# Altium footprint library FullyDigital.PcbLib: 50 footprints (part 3 of 4)
Each footprint in its own frame and in the unit in brackets; x right, y up, seen from the top. Pads: shape width x height; smd on the part's side, far side on the other; paste and mask are expansions set on the pad; w line width, h text height; cw(c..) or ccw(c..) is an arc to the next point about the centre after c.
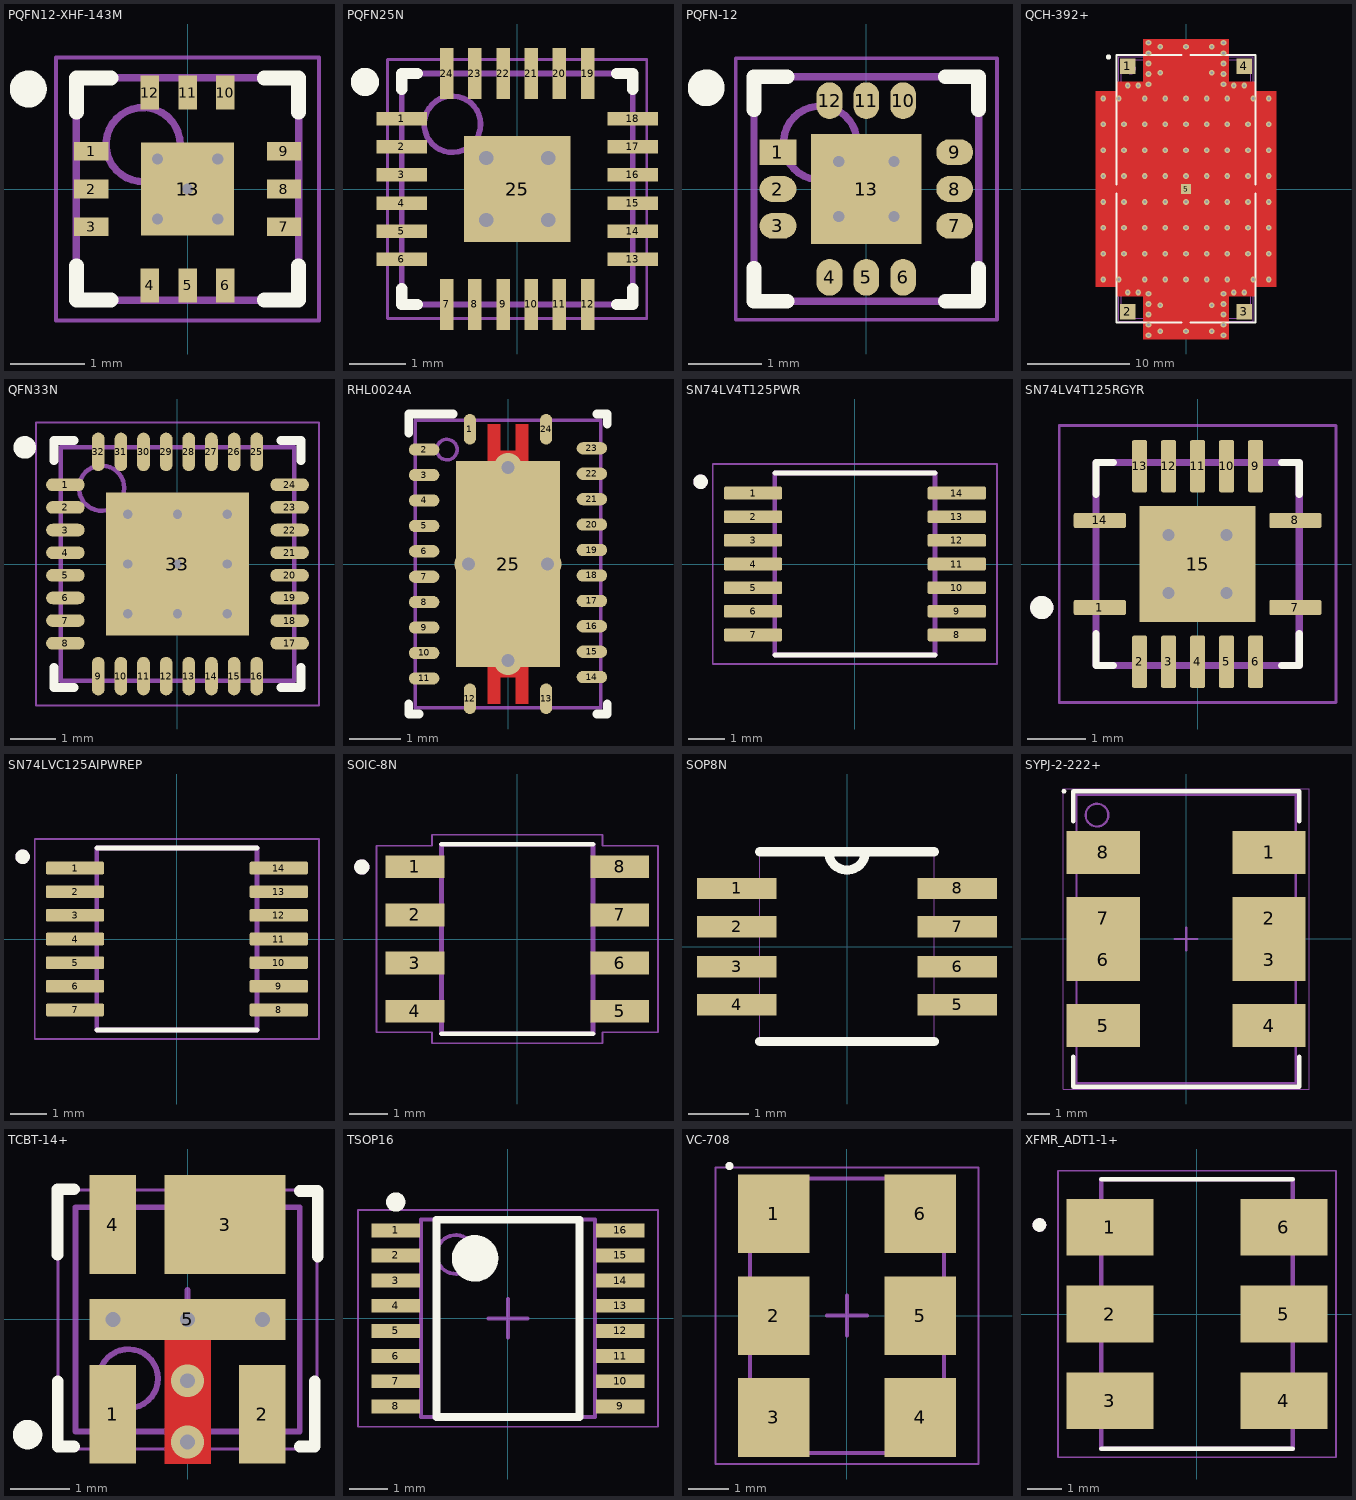
[diagram p2: the footprints below, top view; thin cyan lines are the x and y axes]

## PQFN12-XHF-143M [mm] "PQFN, 12-Leads, Body 3.00x3.00mm, Pitch 0.51mm, Thermal Pad 1.25x1.25mm, IPC Medium Density"
height 0.89
pads (13):
  rect 0.46x0.25 smd mask+0.051: 1(-1.3,0.51) 2(-1.3,0) 3(-1.3,-0.51) 7(1.3,-0.51) 8(1.3,0) 9(1.3,0.51)
  rect 0.25x0.46 smd mask+0.051: 4(-0.51,-1.3) 5(0,-1.3) 6(0.51,-1.3) 10(0.51,1.3) 11(0,1.3) 12(-0.51,1.3)
  rect 1.25x1.25 smd mask+0.051: 13(0,0)
via 0.406,-0.406 diameter 0.305 hole 0.152
via -0.406,0.406 diameter 0.305 hole 0.152
via -0.406,-0.406 diameter 0.305 hole 0.152
via 0.406,0.406 diameter 0.305 hole 0.152
via 0,0 diameter 0.305 hole 0.152
Top Overlay:
  circle w0.25: c-2.15,1.35 r0.125
  lines w0.2: -1.5,-1.035 -1.5,-1.5 -1.035,-1.5 ; -1.5,1.035 -1.5,1.5 -1.035,1.5 ; 1.035,-1.5 1.5,-1.5 1.5,-1.035 ; 1.035,1.5 1.5,1.5 1.5,1.035
Mechanical 13:
  circle w0.1: c-0.6,0.6 r0.5
  lines w0.1: -1.5,-1.5 1.5,-1.5 1.5,1.5 -1.5,1.5 -1.5,-1.5
Mechanical 15:
  lines w0.05: -1.775,-1.775 1.775,-1.775 1.775,1.775 -1.775,1.775 -1.775,-1.775
  lines w0.1: -0.5,0 0.5,0 ; 0,-0.5 0,0.5
3D body: height 0.89, standoff 0.2, extent -1.5,-1.5 1.5,1.5

## PQFN25N [mm] "PQFN, 24-Leads, Body 4.00x4.00mm, Pitch 0.50mm, Thermal Pad 1.89x1.89mm, IPC Medium Density"
height 0.8
pads (25):
  rect 0.9x0.24 smd mask+0.025: 1(-2.05,1.25) 2(-2.05,0.75) 3(-2.05,0.25) 4(-2.05,-0.25) 5(-2.05,-0.75) 6(-2.05,-1.25) 13(2.05,-1.25) 14(2.05,-0.75) 15(2.05,-0.25) 16(2.05,0.25) 17(2.05,0.75) 18(2.05,1.25)
  rect 0.24x0.9 smd mask+0.025: 7(-1.25,-2.05) 8(-0.75,-2.05) 9(-0.25,-2.05) 10(0.25,-2.05) 11(0.75,-2.05) 12(1.25,-2.05) 19(1.25,2.05) 20(0.75,2.05) 21(0.25,2.05) 22(-0.25,2.05) 23(-0.75,2.05) 24(-1.25,2.05)
  rect 1.89x1.89 smd mask+0.025: 25(0,0)
via -0.55,0.55 diameter 0.559 hole 0.254
via 0.55,0.55 diameter 0.559 hole 0.254
via -0.55,-0.55 diameter 0.559 hole 0.254
via 0.55,-0.55 diameter 0.559 hole 0.254
Top Overlay:
  circle w0.25: c-2.7,1.9 r0.125
  lines w0.2: -2.05,-1.77 -2.05,-2.05 -1.77,-2.05 ; -2.05,1.77 -2.05,2.05 -1.77,2.05 ; 1.77,-2.05 2.05,-2.05 2.05,-1.77 ; 1.77,2.05 2.05,2.05 2.05,1.77
Mechanical 13:
  circle w0.1: c-1.15,1.15 r0.5
  lines w0.1: -2.05,-2.05 -2.05,2.05 2.05,2.05 2.05,-2.05 -2.05,-2.05
Mechanical 15:
  lines w0.05: -2.3,-2.3 -2.3,2.3 2.3,2.3 2.3,-2.3 -2.3,-2.3
  lines w0.1: -0.5,0 0.5,0 ; 0,-0.5 0,0.5
3D body: height 0.8, standoff 0.05, extent -2.05,-2.05 2.05,2.05

## PQFN-12 [mm] "PQFN, 12-Leads, Body 2.90x2.90mm, Pitch 0.50mm, Thermal Pad 1.50x1.50mm, IPC Medium Density"
height 0.9
pads (13):
  rect 0.5x0.35 smd mask+0.025: 1(-1.2,0.5)
  oval 0.5x0.35 smd mask+0.025: 2(-1.2,0) 3(-1.2,-0.5) 7(1.2,-0.5) 8(1.2,0) 9(1.2,0.5)
  oval 0.35x0.5 smd mask+0.025: 4(-0.5,-1.2) 5(0,-1.2) 6(0.5,-1.2) 10(0.5,1.2) 11(0,1.2) 12(-0.5,1.2)
  rect 1.5x1.5 smd mask+0.025: 13(0,0)
via 0.375,-0.375 diameter 0.356 hole 0.152
via -0.375,-0.375 diameter 0.356 hole 0.152
via 0.375,0.375 diameter 0.356 hole 0.152
via -0.375,0.375 diameter 0.356 hole 0.152
Top Overlay:
  circle w0.25: c-2.175,1.375 r0.125
  lines w0.2: -1.525,-1.075 -1.525,-1.525 -1.075,-1.525 ; -1.525,1.075 -1.525,1.525 -1.075,1.525 ; 1.075,-1.525 1.525,-1.525 1.525,-1.075 ; 1.075,1.525 1.525,1.525 1.525,1.075
Mechanical 13:
  circle w0.1: c-0.625,0.625 r0.5
  lines w0.1: -1.525,-1.525 1.525,-1.525 1.525,1.525 -1.525,1.525 -1.525,-1.525
Mechanical 15:
  lines w0.05: -1.775,-1.775 1.775,-1.775 1.775,1.775 -1.775,1.775 -1.775,-1.775
  lines w0.1: -0.5,0 0.5,0 ; 0,-0.5 0,0.5
3D body "PQFN-12.step": height 0.9, standoff 0, extent -1.525,-1.525 1.525,1.525

## QCH-392+ [mm] "2 Way-90° Power Splitter"
height 0.9
pads (5):
  rect 1.52x1.52 smd mask+0.05: 1(-5.715,12.065) 2(-5.715,-12.065) 3(5.715,-12.065) 4(5.715,12.065)
  rect 1x1 smd: 5(0,0)
via -3.683,-13.335 diameter 0.559 hole 0.254
via -3.683,-12.319 diameter 0.559 hole 0.254
via -3.683,-11.303 diameter 0.559 hole 0.254
via -3.683,-10.287 diameter 0.559 hole 0.254
via 3.683,-13.335 diameter 0.559 hole 0.254
via 3.683,-12.319 diameter 0.559 hole 0.254
via 3.683,-11.303 diameter 0.559 hole 0.254
via 3.683,-10.287 diameter 0.559 hole 0.254
via -5.715,-10.16 diameter 0.559 hole 0.254
via -4.699,-10.16 diameter 0.559 hole 0.254
via 4.699,-10.16 diameter 0.559 hole 0.254
via 5.715,-10.16 diameter 0.559 hole 0.254
via -5.715,10.16 diameter 0.559 hole 0.254
via -4.699,10.16 diameter 0.559 hole 0.254
via 5.715,10.16 diameter 0.559 hole 0.254
via 4.699,10.16 diameter 0.559 hole 0.254
via -3.683,10.287 diameter 0.559 hole 0.254
via -3.683,11.303 diameter 0.559 hole 0.254
via -3.683,12.319 diameter 0.559 hole 0.254
via -3.683,13.335 diameter 0.559 hole 0.254
via 3.683,13.335 diameter 0.559 hole 0.254
via 3.683,12.319 diameter 0.559 hole 0.254
via 3.683,11.303 diameter 0.559 hole 0.254
via 3.683,10.287 diameter 0.559 hole 0.254
via 6.604,8.89 diameter 0.559 hole 0.254
via -2.54,-11.43 diameter 0.559 hole 0.254
via 2.54,-11.43 diameter 0.559 hole 0.254
via -2.54,11.43 diameter 0.559 hole 0.254
via 2.54,11.43 diameter 0.559 hole 0.254
via 6.604,-8.89 diameter 0.559 hole 0.254
via 4.064,-8.89 diameter 0.559 hole 0.254
via 2.032,-8.89 diameter 0.559 hole 0.254
via 0,-8.89 diameter 0.559 hole 0.254
via -2.032,-8.89 diameter 0.559 hole 0.254
via -6.604,-8.89 diameter 0.559 hole 0.254
via 6.096,-6.35 diameter 0.559 hole 0.254
via 4.064,-6.35 diameter 0.559 hole 0.254
via 2.032,-6.35 diameter 0.559 hole 0.254
via 0,-6.35 diameter 0.559 hole 0.254
via -2.032,-6.35 diameter 0.559 hole 0.254
via -6.096,-6.35 diameter 0.559 hole 0.254
via 6.096,-3.81 diameter 0.559 hole 0.254
via 4.064,-3.81 diameter 0.559 hole 0.254
via 2.032,-3.81 diameter 0.559 hole 0.254
via 0,-3.81 diameter 0.559 hole 0.254
via -2.032,-3.81 diameter 0.559 hole 0.254
via -6.096,-3.81 diameter 0.559 hole 0.254
via 6.096,-1.27 diameter 0.559 hole 0.254
via 4.064,-1.27 diameter 0.559 hole 0.254
via 2.032,-1.27 diameter 0.559 hole 0.254
via 0,-1.27 diameter 0.559 hole 0.254
via -2.032,-1.27 diameter 0.559 hole 0.254
via -6.096,-1.27 diameter 0.559 hole 0.254
via 6.096,1.27 diameter 0.559 hole 0.254
via 4.064,1.27 diameter 0.559 hole 0.254
via 2.032,1.27 diameter 0.559 hole 0.254
via 0,1.27 diameter 0.559 hole 0.254
via -2.032,1.27 diameter 0.559 hole 0.254
via -6.096,1.27 diameter 0.559 hole 0.254
via 6.096,3.81 diameter 0.559 hole 0.254
via 4.064,3.81 diameter 0.559 hole 0.254
via 2.032,3.81 diameter 0.559 hole 0.254
via 0,3.81 diameter 0.559 hole 0.254
via -2.032,3.81 diameter 0.559 hole 0.254
via -6.096,3.81 diameter 0.559 hole 0.254
via 6.096,6.35 diameter 0.559 hole 0.254
via 4.064,6.35 diameter 0.559 hole 0.254
via 2.032,6.35 diameter 0.559 hole 0.254
via 0,6.35 diameter 0.559 hole 0.254
via -2.032,6.35 diameter 0.559 hole 0.254
via -6.096,6.35 diameter 0.559 hole 0.254
via 4.064,8.89 diameter 0.559 hole 0.254
via 2.032,8.89 diameter 0.559 hole 0.254
via 0,8.89 diameter 0.559 hole 0.254
via -2.032,8.89 diameter 0.559 hole 0.254
via -6.604,8.89 diameter 0.559 hole 0.254
via -4.064,8.89 diameter 0.559 hole 0.254
via -4.064,6.35 diameter 0.559 hole 0.254
via -4.064,3.81 diameter 0.559 hole 0.254
via -4.064,1.27 diameter 0.559 hole 0.254
via -4.064,-1.27 diameter 0.559 hole 0.254
via -4.064,-3.81 diameter 0.559 hole 0.254
via -4.064,-6.35 diameter 0.559 hole 0.254
via -4.064,-8.89 diameter 0.559 hole 0.254
via 8.128,8.89 diameter 0.559 hole 0.254
via 8.128,6.35 diameter 0.559 hole 0.254
via 8.128,3.81 diameter 0.559 hole 0.254
via 8.128,1.27 diameter 0.559 hole 0.254
via 8.128,-1.27 diameter 0.559 hole 0.254
via 8.128,-3.81 diameter 0.559 hole 0.254
via 8.128,-6.35 diameter 0.559 hole 0.254
via 8.128,-8.89 diameter 0.559 hole 0.254
via -8.128,-8.89 diameter 0.559 hole 0.254
via -8.128,-6.35 diameter 0.559 hole 0.254
via -8.128,-3.81 diameter 0.559 hole 0.254
via -8.128,-1.27 diameter 0.559 hole 0.254
via -8.128,1.27 diameter 0.559 hole 0.254
via -8.128,3.81 diameter 0.559 hole 0.254
via -8.128,6.35 diameter 0.559 hole 0.254
via -8.128,8.89 diameter 0.559 hole 0.254
via 2.54,13.97 diameter 0.559 hole 0.254
via -2.54,13.97 diameter 0.559 hole 0.254
via 0,13.97 diameter 0.559 hole 0.254
via 3.683,14.351 diameter 0.559 hole 0.254
via -3.683,14.351 diameter 0.559 hole 0.254
via 3.683,-14.351 diameter 0.559 hole 0.254
via -3.683,-14.351 diameter 0.559 hole 0.254
via 0,-13.97 diameter 0.559 hole 0.254
via -2.54,-13.97 diameter 0.559 hole 0.254
via 2.54,-13.97 diameter 0.559 hole 0.254
Top Layer:
  rectangle: 6.844,-9.639 8.904,9.639
  rectangle: -8.904,-9.639 -6.844,9.639
  region: -4.195,-14.732 -4.195,-10.54 -6.855,-10.54 -6.855,10.54 -4.195,10.54 -4.195,14.732 4.195,14.732 4.195,10.54 6.855,10.54 6.855,-10.54 4.195,-10.54 4.195,-14.732
Top Overlay:
  circle w0.25: c-7.62,12.954 r0.125
  lines w0.2: -6.833,-0.45 -6.833,-13.132 -0.45,-13.132 ; -6.833,0.45 -6.833,13.157 -0.45,13.157 ; 0.45,-13.132 6.807,-13.132 6.807,-0.45 ; 0.45,13.157 6.807,13.157 6.807,0.45
Mechanical 13:
  circle w0.1: c-5.45,11.8 r0.5
  lines w0.1: -6.35,-12.7 6.35,-12.7 6.35,12.7 -6.35,12.7 -6.35,-12.7
Mechanical 15:
  lines w0.05: -6.625,-12.975 6.625,-12.975 6.625,12.975 -6.625,12.975 -6.625,-12.975
3D body: height 0.9, standoff 0, extent -6.35,-12.7 6.35,12.7

## QFN33N [mm] "QFN, 32-Leads, Body 5.00x5.00mm, Pitch 0.50mm, Thermal Pad 3.15x3.15mm, IPC Medium Density"
height 1
pads (33):
  oval 0.85x0.28 smd mask+0.07: 1(-2.475,1.75) 2(-2.475,1.25) 3(-2.475,0.75) 4(-2.475,0.25) 5(-2.475,-0.25) 6(-2.475,-0.75) 7(-2.475,-1.25) 8(-2.475,-1.75) 17(2.475,-1.75) 18(2.475,-1.25) 19(2.475,-0.75) 20(2.475,-0.25) 21(2.475,0.25) 22(2.475,0.75) 23(2.475,1.25) 24(2.475,1.75)
  oval 0.28x0.85 smd mask+0.07: 9(-1.75,-2.475) 10(-1.25,-2.475) 11(-0.75,-2.475) 12(-0.25,-2.475) 13(0.25,-2.475) 14(0.75,-2.475) 15(1.25,-2.475) 16(1.75,-2.475) 25(1.75,2.475) 26(1.25,2.475) 27(0.75,2.475) 28(0.25,2.475) 29(-0.25,2.475) 30(-0.75,2.475) 31(-1.25,2.475) 32(-1.75,2.475)
  rect 3.15x3.15 smd mask+0.07: 33(0,0)
via 1.1,-1.1 diameter 0.508 hole 0.203
via 0,-1.1 diameter 0.508 hole 0.203
via -1.1,-1.1 diameter 0.508 hole 0.203
via 1.1,0 diameter 0.508 hole 0.203
via 0,0 diameter 0.508 hole 0.203
via -1.1,0 diameter 0.508 hole 0.203
via 1.1,1.1 diameter 0.508 hole 0.203
via 0,1.1 diameter 0.508 hole 0.203
via -1.1,1.1 diameter 0.508 hole 0.203
Top Overlay:
  circle w0.25: c-3.375,2.575 r0.125
  lines w0.2: -2.725,-2.29 -2.725,-2.725 -2.29,-2.725 ; -2.725,2.29 -2.725,2.725 -2.29,2.725 ; 2.29,-2.725 2.725,-2.725 2.725,-2.29 ; 2.29,2.725 2.725,2.725 2.725,2.29
Mechanical 13:
  circle w0.1: c-1.675,1.675 r0.5
  lines w0.1: -2.575,-2.575 2.575,-2.575 2.575,2.575 -2.575,2.575 -2.575,-2.575
Mechanical 15:
  lines w0.05: -3.125,-3.125 3.125,-3.125 3.125,3.125 -3.125,3.125 -3.125,-3.125
  lines w0.1: -0.5,0 0.5,0 ; 0,-0.5 0,0.5
3D body: height 1, standoff 0.05, extent -2.575,-2.575 2.575,2.575

## RHL0024A [mm] "SN74AXC8T245 8-Bit Dual-Supply Bus Transceiver With Configurable Voltage Translation  and Tri-State Outputs"
pads (25):
  oval 0.24x0.6 smd paste+0 mask+0.051: 1(-0.75,2.65) 12(-0.75,-2.65) 13(0.75,-2.65) 24(0.75,2.65)
  oval 0.6x0.24 smd paste+0 mask+0.051: 2(-1.65,2.25) 3(-1.65,1.75) 4(-1.65,1.25) 5(-1.65,0.75) 6(-1.65,0.25) 7(-1.65,-0.25) 8(-1.65,-0.75) 9(-1.65,-1.25) 10(-1.65,-1.75) 11(-1.65,-2.25) 14(1.65,-2.225) 15(1.65,-1.725) 16(1.65,-1.225) 17(1.65,-0.725) 18(1.65,-0.225) 19(1.65,0.275) 20(1.65,0.775) 21(1.65,1.275) 22(1.65,1.775) 23(1.65,2.275)
  rect 2.05x4.05 smd paste-2.012 mask+0.051: 25(0,0)
via 0,-1.9 diameter 0.559 hole 0.254
via 0,1.9 diameter 0.559 hole 0.254
via -0.775,0 diameter 0.559 hole 0.254
via 0.775,0 diameter 0.559 hole 0.254
Top Layer:
  region: 0.396,-2.75 0.396,-2 0.154,-2 0.154,-2.75
  region: -0.152,-2.75 -0.152,-2 -0.394,-2 -0.394,-2.75
  region: -0.395,2.225 -0.395,2.024 0.395,2.024 0.395,2.225
  region: 0.152,2.75 0.152,2 0.394,2 0.394,2.75
  region: -0.396,2.75 -0.396,2 -0.154,2 -0.154,2.75
  region: -0.395,-2.024 -0.395,-2.225 0.395,-2.225 0.395,-2.024
Top Overlay:
  lines w0.17: -1.95,-2.75 -1.95,-2.95 -1.75,-2.95 ; -1.95,2.575 -1.95,2.95 -1.075,2.95 ; 1.75,-2.95 1.95,-2.95 1.95,-2.75 ; 1.75,2.95 1.95,2.95 1.95,2.75
Top Paste:
  region: -0.895,1.798 -0.895,0.1 0.894,0.1 0.894,1.798
  region: -0.895,-0.1 -0.895,-1.798 0.894,-1.798 0.894,-0.1
  region: -0.395,2.225 -0.395,2.024 0.395,2.024 0.395,2.225
  region: -0.395,-2.024 -0.395,-2.225 0.395,-2.225 0.395,-2.024
  region: -0.393,-2.746 -0.153,-2.746 -0.153,-2.225 -0.393,-2.225
  region: 0.155,-2.746 0.395,-2.746 0.395,-2.225 0.155,-2.225
  region: 0.154,2.225 0.393,2.225 0.393,2.746 0.154,2.746
  region: -0.394,2.225 -0.155,2.225 -0.155,2.746 -0.394,2.746
Top Solder:
  region: 0.447,-2.801 0.447,-1.949 0.103,-1.949 0.103,-2.801
  region: -0.101,-2.801 -0.101,-1.949 -0.445,-1.949 -0.445,-2.801
  region: -0.446,2.276 -0.446,1.973 0.446,1.973 0.446,2.276
  region: 0.101,2.801 0.101,1.949 0.445,1.949 0.445,2.801
  region: -0.447,2.801 -0.447,1.949 -0.103,1.949 -0.103,2.801
  region: -0.446,-1.973 -0.446,-2.276 0.446,-2.276 0.446,-1.973
Mechanical 13:
  circle w0.07: c-1.202,2.25 r0.202
  lines w0.07: -1.825,-2.825 1.825,-2.825 1.825,2.825 -1.825,2.825 -1.825,-2.825
3D body: height 0.25, standoff 0, extent 0,0 0.254,0.254

## SN74LV4T125PWR [mm] "SOP65P640X120-14N"
pads (14):
  rrect25% 1.6x0.35 smd mask+0.07: 1(-2.8,1.95) 2(-2.8,1.3) 3(-2.8,0.65) 4(-2.8,0) 5(-2.8,-0.65) 6(-2.8,-1.3) 7(-2.8,-1.95) 8(2.8,-1.95) 9(2.8,-1.3) 10(2.8,-0.65) 11(2.8,0) 12(2.8,0.65) 13(2.8,1.3) 14(2.8,1.95)
Top Overlay:
  circle w0.2: c-4.24,2.26 r0.1
  lines w0.127: -2.2,-2.5 2.2,-2.5 ; -2.2,2.5 2.2,2.5
Mechanical 13:
  circle w0.2: c-4.24,2.26 r0.1
  lines w0.127: -2.2,-2.5 -2.2,2.5 2.2,2.5 2.2,-2.5 -2.2,-2.5
Mechanical 15:
  lines w0.05: -3.905,-2.75 -3.905,2.75 3.905,2.75 3.905,-2.75 -3.905,-2.75

## SN74LV4T125RGYR [mm] "QFN50P350X350X100-15N"
height 1
pads (15):
  rrect25% 0.9x0.26 smd mask+0.025: 1(-1.685,-0.75) 7(1.685,-0.75) 8(1.685,0.75) 14(-1.685,0.75)
  rrect25% 0.26x0.9 smd mask+0.025: 2(-1,-1.685) 3(-0.5,-1.685) 4(0,-1.685) 5(0.5,-1.685) 6(1,-1.685) 9(1,1.685) 10(0.5,1.685) 11(0,1.685) 12(-0.5,1.685) 13(-1,1.685)
  rect 2x2 smd paste-2 mask+0.025: 15(0,0)
via 0.5,-0.5 diameter 0.508 hole 0.203
via -0.5,-0.5 diameter 0.508 hole 0.203
via -0.5,0.5 diameter 0.508 hole 0.203
via 0.5,0.5 diameter 0.508 hole 0.203
Top Overlay:
  circle w0.2: c-2.685,-0.75 r0.1
  lines w0.127: -1.75,-1.2 -1.75,-1.75 -1.45,-1.75 ; -1.75,1.2 -1.75,1.75 -1.45,1.75 ; 1.45,-1.75 1.75,-1.75 1.75,-1.2 ; 1.45,1.75 1.75,1.75 1.75,1.2
Top Paste:
  region: 0.63,-0.63 -0.63,-0.63 -0.63,0.63 0.63,0.63
Mechanical 13:
  circle w0.2: c-2.685,-0.75 r0.1
  lines w0.127: -1.75,-1.75 1.75,-1.75 1.75,1.75 -1.75,1.75 -1.75,-1.75
Mechanical 15:
  lines w0.05: -2.385,-2.385 2.385,-2.385 2.385,2.385 -2.385,2.385 -2.385,-2.385

## SN74LVC125AIPWREP [mm] "TSSOP – PW"
pads (14):
  rrect25% 1.6x0.35 smd mask+0.07: 1(-2.8,1.95) 2(-2.8,1.3) 3(-2.8,0.65) 4(-2.8,0) 5(-2.8,-0.65) 6(-2.8,-1.3) 7(-2.8,-1.95) 8(2.8,-1.95) 9(2.8,-1.3) 10(2.8,-0.65) 11(2.8,0) 12(2.8,0.65) 13(2.8,1.3) 14(2.8,1.95)
Top Overlay:
  circle w0.2: c-4.24,2.26 r0.1
  lines w0.127: -2.2,-2.5 2.2,-2.5 ; -2.2,2.5 2.2,2.5
Mechanical 13:
  circle w0.2: c-4.24,2.26 r0.1
  lines w0.127: -2.2,-2.5 2.2,-2.5 2.2,2.5 -2.2,2.5 -2.2,-2.5
Mechanical 15:
  lines w0.05: -3.905,-2.75 3.905,-2.75 3.905,2.75 -3.905,2.75 -3.905,-2.75

## SOIC-8N [mm] "LM358"
height 1.702
pads (8):
  rect 1.55x0.6 smd: 1(-2.7,1.905) 2(-2.7,0.635) 3(-2.7,-0.635) 4(-2.7,-1.905) 5(2.7,-1.905) 6(2.7,-0.635) 7(2.7,0.635) 8(2.7,1.905)
Top Overlay:
  circle w0.2: c-4.1,1.9 r0.1
  lines w0.127: -2,-2.5 2,-2.5 ; -2,2.5 2,2.5
Mechanical 13:
  circle w0.2: c-4.1,1.9 r0.1
  circle w0.2: c-4.1,1.9 r0.1
  lines w0.127: -2,-2.5 -2,2.5 ; -2,-2.5 2,-2.5 ; -2,-2.5 -2,2.5 ; -2,-2.5 2,-2.5 ; -2,2.5 2,2.5 ; -2,2.5 2,2.5 ; 2,-2.5 2,2.5 ; 2,-2.5 2,2.5
Mechanical 15:
  lines w0.05: -3.71,-2.46 -2.25,-2.46 -2.25,-2.75 2.25,-2.75 2.25,-2.46 3.71,-2.46 3.71,2.46 2.25,2.46 2.25,2.75 -2.25,2.75 -2.25,2.46 -3.71,2.46 -3.71,-2.46

## SOP8N [mil] "PCA9306DCTR"
pads (8):
  rect 52x14 smd mask+2: 1(-72,38) 2(-72,13) 3(-72,-13) 4(-72,-38) 5(72,-38) 6(72,-13) 7(72,13) 8(72,38)
Top Overlay:
  lines w6: -57,-62 57,-62 ; -57,62 -12,62 ; 57,62 12,62 ; -12,62 ccw(c0,62) 12,62 ; -12,62 12,62
Mechanical 13:
  lines w0: -84,-44 -57,-44 ; -84,-44 -84,-32 ; -84,-44 -57,-44 ; -84,-44 -84,-32 ; -84,-32 -57,-32 ; -84,-32 -57,-32 ; -84,-19 -57,-19 ; -84,-19 -84,-7 ; -84,-19 -57,-19 ; -84,-19 -84,-7 ; -84,-7 -57,-7 ; -84,-7 -57,-7 ; -84,7 -57,7 ; -84,7 -84,19 ; -84,7 -57,7 ; -84,7 -84,19 ; -84,19 -57,19 ; -84,19 -57,19 ; -84,32 -57,32 ; -84,32 -84,44 ; -84,32 -57,32 ; -84,32 -84,44 ; -84,44 -57,44 ; -84,44 -57,44 ; -57,-62 -57,62 ; -57,-62 57,-62 ; -57,-62 -57,62 ; -57,-62 57,-62 ; -57,-44 -57,-32 ; -57,-44 -57,-32 ; -57,-19 -57,-7 ; -57,-19 -57,-7 ; -57,7 -57,19 ; -57,7 -57,19 ; -57,32 -57,44 ; -57,32 -57,44 ; -57,62 -12,62 ; -57,62 -12,62 ; -12,62 ccw(c0,62) 12,62 ; -12,62 ccw(c0,62) 12,62 ; -12,62 12,62 ; -12,62 12,62 ; 12,62 57,62 ; 12,62 57,62 ; 57,-62 57,62 ; 57,-62 57,62 ; 57,-44 84,-44 ; 57,-44 57,-32 ; 57,-44 84,-44 ; 57,-44 57,-32 ; 57,-32 84,-32 ; 57,-32 84,-32 ; 57,-19 84,-19 ; 57,-19 57,-7 ; 57,-19 84,-19 ; 57,-19 57,-7 ; 57,-7 84,-7 ; 57,-7 84,-7 ; 57,7 84,7 ; 57,7 57,19 ; 57,7 84,7 ; 57,7 57,19 ; 57,19 84,19 ; 57,19 84,19 ; 57,32 84,32 ; 57,32 57,44 ; 57,32 84,32 ; 57,32 57,44 ; 57,44 84,44 ; 57,44 84,44 ; 84,-44 84,-32 ; 84,-44 84,-32 ; 84,-19 84,-7 ; 84,-19 84,-7 ; 84,7 84,19 ; 84,7 84,19 ; 84,32 84,44 ; 84,32 84,44

## SYPJ-2-222+ [mil] "Power Splitter/Combiner, 2 Way-180° 50O 500 to 2250 MHz"
height 250
pads (8):
  rect 127x74 smd: 1(143.5,150) 2(143.5,36) 3(143.5,-36) 4(143.5,-150) 5(-143.5,-150) 6(-143.5,-36) 7(-143.5,36) 8(-143.5,150)
Top Overlay:
  circle w3.94: c-211.61,255.91 r1.97
  lines w7.87: -195.87,-204.02 -195.87,-255.91 195.87,-255.91 195.87,-204.02 ; -195.87,204 -195.87,255.91 195.87,255.91 195.87,204
Mechanical 13:
  circle w3.94: c-154.53,214.57 r19.68
  lines w3.94: -189.96,-250 -189.96,250 189.96,250 189.96,-250 -189.96,-250
Mechanical 15:
  lines w1.97: -212.99,-259.84 -212.99,259.84 212.99,259.84 212.99,-259.84 -212.99,-259.84
  lines w3.94: -19.68,0 19.68,0 ; 0,-19.69 0,19.68
3D body: height 250, standoff 20.08, extent -189.96,-250 189.96,250

## TCBT-14+ [mm] "TCBT-14+, 5-Leads, Body 3.81x3.81mm"
height 3.56
pads (5):
  rect 0.79x1.68 smd mask+0.05: 1(-1.27,-1.61) 2(1.27,-1.61) 4(-1.27,1.61)
  rect 2.06x1.68 smd mask+0.05: 3(0.635,1.61)
  rect 3.33x0.69 smd mask+0.05: 5(0,0)
via 0,-1.041 diameter 0.559 hole 0.254
via 0,-2.083 diameter 0.559 hole 0.254
via -1.27,0 diameter 0.559 hole 0.254
via 1.27,0 diameter 0.559 hole 0.254
via 0,0 diameter 0.559 hole 0.254
Top Layer:
  rectangle: -0.395,-2.455 0.395,0.345
Top Overlay:
  circle w0.25: c-2.718,-1.956 r0.125
  lines w0.2: -2.21,1.1 -2.21,2.21 -1.93,2.21 ; -2.206,-1.049 -2.206,-2.159 -1.93,-2.159 ; 1.905,-2.159 2.159,-2.159 2.159,-1.049 ; 1.905,2.181 2.21,2.181 2.21,1.071
Mechanical 13:
  circle w0.1: c-1.005,-1.005 r0.5
  lines w0.1: -1.905,-1.905 -1.905,1.905 1.905,1.905 1.905,-1.905 -1.905,-1.905
Mechanical 15:
  lines w0.05: -2.2,-2.2 -2.2,2.2 2.2,2.2 2.2,-2.2 -2.2,-2.2
  lines w0.1: -0.5,0 0.5,0 ; 0,-0.5 0,0.5
3D body: height 3.56, standoff 0.05, extent -1.905,-1.905 1.905,1.905

## TSOP16 [mm] "TSOP, 16-Leads, Body 5.00x4.40mm, Pitch 0.65mm, IPC Medium Density"
height 1.2
pads (16):
  rect 1.26x0.36 smd mask+0.05: 1(-2.9,2.275) 2(-2.9,1.625) 3(-2.9,0.975) 4(-2.9,0.325) 5(-2.9,-0.325) 6(-2.9,-0.975) 7(-2.9,-1.625) 8(-2.9,-2.275) 9(2.9,-2.275) 10(2.9,-1.625) 11(2.9,-0.975) 12(2.9,-0.325) 13(2.9,0.325) 14(2.9,0.975) 15(2.9,1.625) 16(2.9,2.275)
Top Overlay:
  circle w0.6: c-0.85,1.55 r0.3
  circle w0.25: c-2.9,3.005 r0.125
  lines w0.2: -1.85,-2.55 1.85,-2.55 1.85,2.55 -1.85,2.55 -1.85,-2.55
Mechanical 13:
  circle w0.1: c-1.35,1.65 r0.5
  lines w0.1: -2.25,-2.55 2.25,-2.55 2.25,2.55 -2.25,2.55 -2.25,-2.55
Mechanical 15:
  lines w0.05: -3.875,-2.8 3.875,-2.8 3.875,2.8 -3.875,2.8 -3.875,-2.8
  lines w0.1: -0.5,0 0.5,0 ; 0,-0.5 0,0.5
3D body "TSOP16.step": height 1.2, standoff 0, extent -3.2,-2.55 3.2,2.55

## VC-708 [mm] "6-Leads, Crystal Oscillator, 7mm x 5mm"
height 1.8
pads (6):
  rect 1.78x1.96 smd: 1(-1.83,2.54) 2(-1.83,0) 3(-1.83,-2.54) 4(1.83,-2.54) 5(1.83,0) 6(1.83,2.54)
Top Overlay:
  circle w0.1: c-2.932,3.732 r0.05
Mechanical 13:
  circle w0.1: c-1.525,2.525 r0.5
  lines w0.1: -2.425,-3.425 2.425,-3.425 2.425,3.425 -2.425,3.425 -2.425,-3.425
Mechanical 15:
  lines w0.05: -3.28,-3.7 3.28,-3.7 3.28,3.7 -3.28,3.7 -3.28,-3.7
  lines w0.1: -0.5,0 0.5,0 ; 0,-0.5 0,0.5
3D body: height 1.8, standoff 0.1, extent -2.425,-3.425 2.425,3.425

## XFMR_ADT1-1+ [mm] "RF Transformer 50ohm 1.0 0.15 to 400 MHz"
height 2.84
pads (6):
  rect 2.54x1.65 smd: 1(-2.54,2.54) 2(-2.54,0) 3(-2.54,-2.54) 4(2.54,-2.54) 5(2.54,0) 6(2.54,2.54)
Top Overlay:
  circle w0.2: c-4.6,2.6 r0.1
  lines w0.127: -2.795,-3.935 2.795,-3.935 ; -2.795,3.935 2.795,3.935
Mechanical 13:
  circle w0.2: c-4.6,2.6 r0.1
  lines w0.127: -2.795,-3.935 -2.795,3.935 2.795,3.935 2.795,-3.935 -2.795,-3.935
Mechanical 15:
  lines w0.05: -4.06,-4.185 -4.06,4.185 4.06,4.185 4.06,-4.185 -4.06,-4.185